# Altium footprint library 4.20-PH2.0直插插座.PcbLib: 11 footprints
Each footprint in its own frame and in the unit in brackets; x right, y up, seen from the top. Pads: shape width x height; smd on the part's side, far side on the other; paste and mask are expansions set on the pad; w line width, h text height; cw(c..) or ccw(c..) is an arc to the next point about the centre after c.
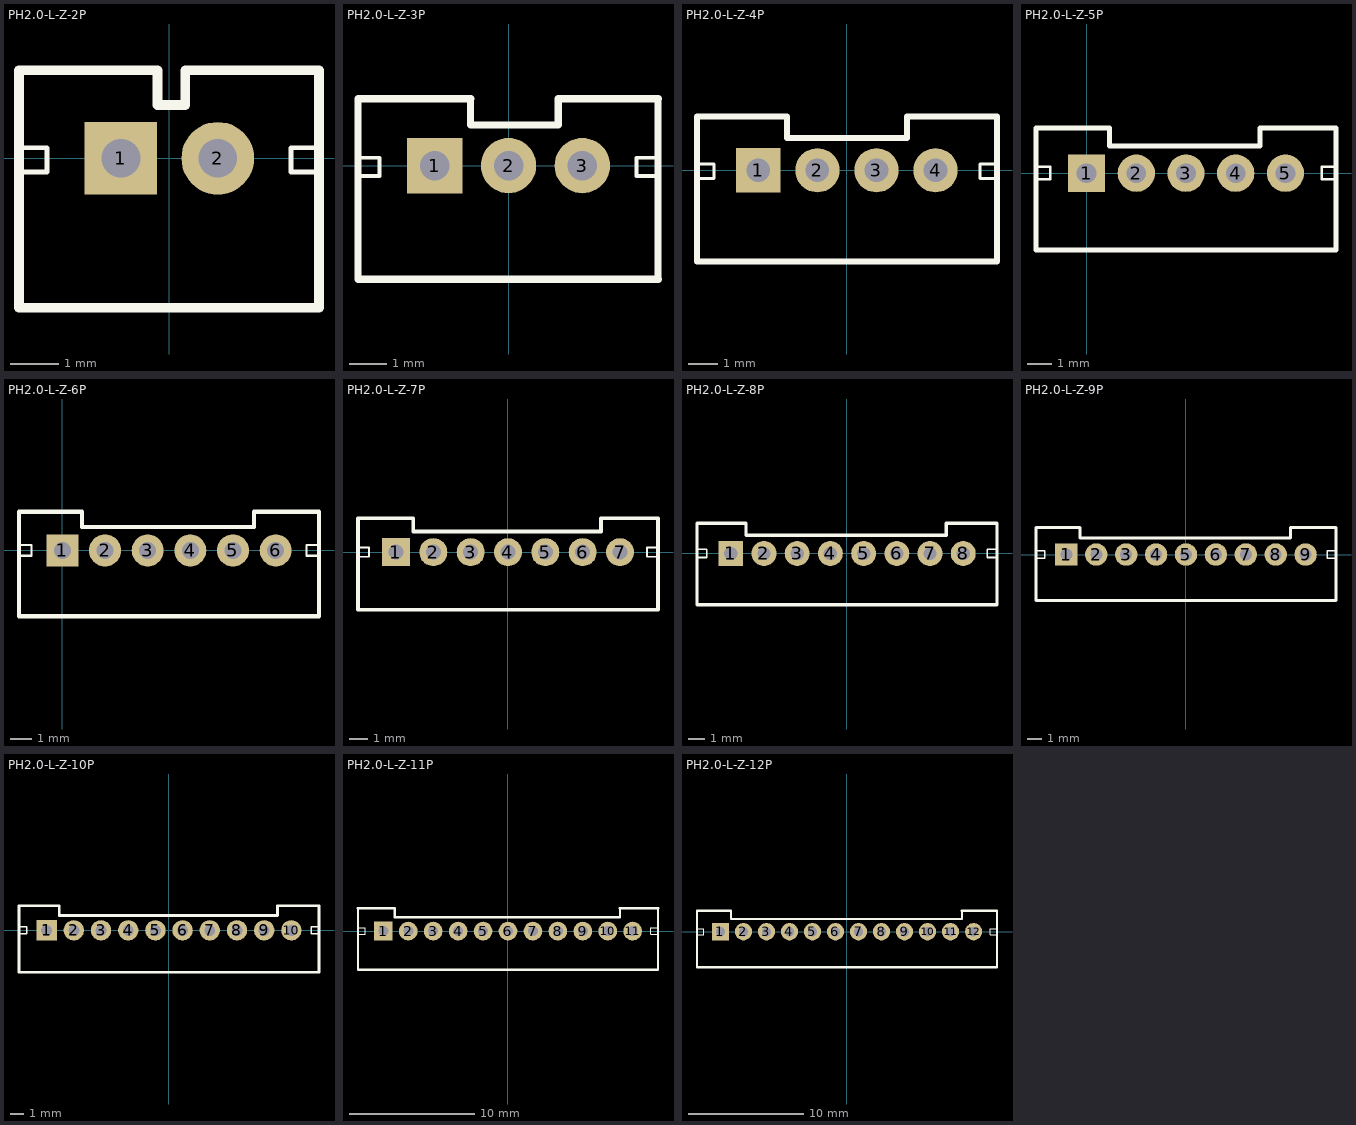
[diagram p0: the footprints below, top view; thin cyan lines are the x and y axes]

## PH2.0-L-Z-2P [mm] "PH2.0 2P立式直插 间距2mm      [ PCB学习群514746572 ]"
height 10
pads (2):
  rect 1.5x1.5 hole 0.8: 1(-1,0)
  round 1.5 hole 0.8: 2(1,0)
Top Overlay:
  lines w0.1: -3.103,-0.284 -2.523,-0.284 -2.523,0.216 -3.103,0.216 ; 3.089,-0.284 2.509,-0.284 2.509,0.216 3.089,0.216
  lines w0.2: -3.103,-3.084 -3.103,1.816 ; -0.245,1.816 -0.245,1.1 0.327,1.1 0.327,1.816 ; 3.089,-3.084 3.089,1.816
  lines w0.203: -3.103,-3.084 3.025,-3.084 ; -3.103,1.816 -0.245,1.816 ; 0.327,1.816 3.025,1.816
3D body "PH2.0-LI-2P .STEP": height 6.05, standoff -2.95, extent -2.95,-3 2.95,1.7

## PH2.0-L-Z-3P [mm] "PH2.0 3P立式直插 间距2mm      [ PCB学习群514746572 ]"
height 10
pads (3):
  rect 1.5x1.5 hole 0.8: 1(-2,0)
  round 1.5 hole 0.8: 2(0,0) 3(2,0)
Top Overlay:
  lines w0.1: -4.078,-0.284 -3.498,-0.284 -3.498,0.216 -4.078,0.216 ; 4.05,-0.284 3.47,-0.284 3.47,0.216 4.05,0.216
  lines w0.2: -4.078,-3.084 -4.078,1.816 ; -1.03,1.816 -1.03,1.1 1.352,1.1 1.352,1.816 ; 4.05,-3.084 4.05,1.816
  lines w0.203: -4.078,-3.084 4.05,-3.084 ; -4.078,1.816 -1.03,1.816 ; 1.352,1.816 4.05,1.816
3D body "PH2.0-LI-3P.STEP": height 6.05, standoff -2.95, extent -3.95,-3 3.95,1.7

## PH2.0-L-Z-4P [mm] "PH2.0 4P立式直插 间距2mm      [ PCB学习群514746572 ]"
height 10
pads (4):
  rect 1.5x1.5 hole 0.8: 1(-3,0)
  round 1.5 hole 0.8: 2(-1,0) 3(1,0) 4(3,0)
Top Overlay:
  lines w0.1: -5.078,-0.284 -4.498,-0.284 -4.498,0.216 -5.078,0.216 ; 5.082,-0.284 4.502,-0.284 4.502,0.216 5.082,0.216
  lines w0.2: -5.078,1.816 -5.078,-3.084 5.082,-3.084 5.082,1.816 ; -2.03,1.816 -2.03,1.1 2.034,1.1 2.034,1.816
  lines w0.203: -5.078,1.816 -2.03,1.816 ; 2.034,1.816 5.082,1.816
3D body "PH2.0-LI-4P.STEP": height 6.05, standoff -2.95, extent -4.95,-3 4.95,1.7

## PH2.0-L-Z-5P [mm] "PH2.0 5P立式直插 间距2mm      [ PCB学习群514746572 ]"
height 10
pads (5):
  rect 1.5x1.5 hole 0.8: 1(0,0)
  round 1.5 hole 0.8: 2(2,0) 3(4,0) 4(6,0) 5(8,0)
Top Overlay:
  lines w0.1: -2.032,-0.246 -1.452,-0.246 -1.452,0.254 -2.032,0.254 ; 10.032,-0.246 9.452,-0.246 9.452,0.254 10.032,0.254
  lines w0.2: -2.032,1.816 -2.032,-3.084 10.032,-3.084 10.032,1.816 ; 0.92,1.816 0.92,1.1 6.984,1.1 6.984,1.816
  lines w0.203: -2.032,1.816 0.92,1.816 ; 6.984,1.816 10.032,1.816
3D body "PH2.0-LI-5P .STEP": height 6.05, standoff -2.95, extent -1.95,-3 9.95,1.7

## PH2.0-L-Z-6P [mm] "PH2.0 6P立式直插 间距2mm      [ PCB学习群514746572 ]"
height 10
pads (6):
  rect 1.5x1.5 hole 0.8: 1(0,0)
  round 1.5 hole 0.8: 2(2,0) 3(4,0) 4(6,0) 5(8,0) 6(10,0)
Top Overlay:
  lines w0.1: -2.032,-0.246 -1.452,-0.246 -1.452,0.254 -2.032,0.254 ; 12.032,-0.246 11.452,-0.246 11.452,0.254 12.032,0.254
  lines w0.2: -2.032,1.816 -2.032,-3.084 12.032,-3.084 12.032,1.816 ; 0.92,1.816 0.92,1.1 8.984,1.1 8.984,1.816
  lines w0.203: -2.032,1.816 0.92,1.816 ; 8.984,1.816 12.032,1.816
3D body "PH2.0-LI-6P.STEP": height 6.05, standoff -2.95, extent -1.87,-3 12.03,1.7

## PH2.0-L-Z-7P [mm] "PH2.0 7P立式直插 间距2mm      [ PCB学习群514746572 ]"
height 10
pads (7):
  rect 1.5x1.5 hole 0.8: 1(-6,0)
  round 1.5 hole 0.8: 2(-4,0) 3(-2,0) 4(0,0) 5(2,0) 6(4,0) 7(6,0)
Top Overlay:
  lines w0.1: -8.032,-0.246 -7.452,-0.246 -7.452,0.254 -8.032,0.254 ; 8.032,-0.246 7.452,-0.246 7.452,0.254 8.032,0.254
  lines w0.2: -8.032,1.816 -8.032,-3.084 8.032,-3.084 8.032,1.816 ; -5.08,1.816 -5.08,1.1 4.984,1.1 4.984,1.816
  lines w0.203: -8.032,1.816 -5.08,1.816 ; 4.984,1.816 8.032,1.816
3D body "PH2.0-LI-7P.STEP": height 6.05, standoff -2.95, extent -7.95,-3 7.95,1.7

## PH2.0-L-Z-8P [mm] "PH2.0 8P立式直插 间距2mm      [ PCB学习群514746572 ]"
height 10
pads (8):
  rect 1.5x1.5 hole 0.8: 1(-7,0)
  round 1.5 hole 0.8: 2(-5,0) 3(-3,0) 4(-1,0) 5(1,0) 6(3,0) 7(5,0) 8(7,0)
Top Overlay:
  lines w0.1: -9.032,-0.246 -8.452,-0.246 -8.452,0.254 -9.032,0.254 ; 9.032,-0.246 8.452,-0.246 8.452,0.254 9.032,0.254
  lines w0.2: -9.032,1.816 -9.032,-3.084 9.032,-3.084 9.032,1.816 ; -6.08,1.816 -6.08,1.1 5.984,1.1 5.984,1.816
  lines w0.203: -9.032,1.816 -6.08,1.816 ; 5.984,1.816 9.032,1.816
3D body "PH2.0-LI-8P.STEP": height 6.05, standoff -2.95, extent -8.95,-3 8.95,1.7

## PH2.0-L-Z-9P [mm] "PH2.0 9P立式直插 间距2mm      [ PCB学习群514746572 ]"
height 10
pads (9):
  rect 1.5x1.5 hole 0.8: 1(-8,0)
  round 1.5 hole 0.8: 2(-6,0) 3(-4,0) 4(-2,0) 5(0,0) 6(2,0) 7(4,0) 8(6,0) 9(8,0)
Top Overlay:
  lines w0.1: -10.032,-0.246 -9.452,-0.246 -9.452,0.254 -10.032,0.254 ; 10.032,-0.246 9.452,-0.246 9.452,0.254 10.032,0.254
  lines w0.2: -10.032,1.816 -10.032,-3.084 10.032,-3.084 10.032,1.816 ; -7.08,1.816 -7.08,1.1 6.984,1.1 6.984,1.816
  lines w0.203: -10.032,1.816 -7.08,1.816 ; 6.984,1.816 10.032,1.816
3D body "PH2.0-LI-9P.STEP": height 6.05, standoff -2.95, extent -9.95,-3 9.95,1.7

## PH2.0-L-Z-10P [mm] "PH2.0 10P立式直插 间距2mm      [ PCB学习群514746572 ]"
height 10
pads (10):
  rect 1.5x1.5 hole 0.8: 1(-9,0)
  round 1.5 hole 0.8: 2(-7,0) 3(-5,0) 4(-3,0) 5(-1,0) 6(1,0) 7(3,0) 8(5,0) 9(7,0) 10(9,0)
Top Overlay:
  lines w0.1: -11.032,-0.246 -10.452,-0.246 -10.452,0.254 -11.032,0.254 ; 11.032,-0.246 10.452,-0.246 10.452,0.254 11.032,0.254
  lines w0.2: -11.032,1.816 -11.032,-3.084 11.032,-3.084 11.032,1.816 ; -8.08,1.816 -8.08,1.1 7.984,1.1 7.984,1.816
  lines w0.203: -11.032,1.816 -8.08,1.816 ; 7.984,1.816 11.032,1.816
3D body "PH2.0-LI-10P.STEP": height 6.05, standoff -2.95, extent -10.95,-3 10.95,1.7

## PH2.0-L-Z-11P [mm] "PH2.0 11P立式直插 间距2mm      [ PCB学习群514746572 ]"
height 10
pads (11):
  rect 1.5x1.5 hole 0.8: 1(-10,0)
  round 1.5 hole 0.8: 2(-8,0) 3(-6,0) 4(-4,0) 5(-2,0) 6(0,0) 7(2,0) 8(4,0) 9(6,0) 10(8,0) 11(10,0)
Top Overlay:
  lines w0.1: -12.032,-0.246 -11.452,-0.246 -11.452,0.254 -12.032,0.254 ; 12.032,-0.246 11.452,-0.246 11.452,0.254 12.032,0.254
  lines w0.2: -12.032,1.816 -12.032,-3.084 12.032,-3.084 12.032,1.816 ; -9.08,1.816 -9.08,1.1 8.984,1.1 8.984,1.816
  lines w0.203: -12.032,1.816 -9.08,1.816 ; 8.984,1.816 12.032,1.816
3D body "PH2.0-LI-11P.STEP": height 6.05, standoff -2.95, extent -11.95,-3 11.95,1.7

## PH2.0-L-Z-12P [mm] "PH2.0 12P立式直插 间距2mm      [ PCB学习群514746572 ]"
height 10
pads (12):
  rect 1.5x1.5 hole 0.8: 1(-11,0)
  round 1.5 hole 0.8: 2(-9,0) 3(-7,0) 4(-5,0) 5(-3,0) 6(-1,0) 7(1,0) 8(3,0) 9(5,0) 10(7,0) 11(9,0) 12(11,0)
Top Overlay:
  lines w0.1: -13.032,-0.246 -12.452,-0.246 -12.452,0.254 -13.032,0.254 ; 13.032,-0.246 12.452,-0.246 12.452,0.254 13.032,0.254
  lines w0.2: -13.032,1.816 -13.032,-3.084 13.032,-3.084 13.032,1.816 ; -10.08,1.816 -10.08,1.1 9.984,1.1 9.984,1.816
  lines w0.203: -13.032,1.816 -10.08,1.816 ; 9.984,1.816 13.032,1.816
3D body "PH2.0-LI-12P.STEP": height 6.05, standoff -2.95, extent -12.95,-3 12.95,1.7